# Altium footprint library SAMTEC-TFM-125-02-X-D-A.PCBLIB: 1 footprints
Each footprint in its own frame and in the unit in brackets; x right, y up, seen from the top. Pads: shape width x height; smd on the part's side, far side on the other; paste and mask are expansions set on the pad; w line width, h text height; cw(c..) or ccw(c..) is an arc to the next point about the centre after c.
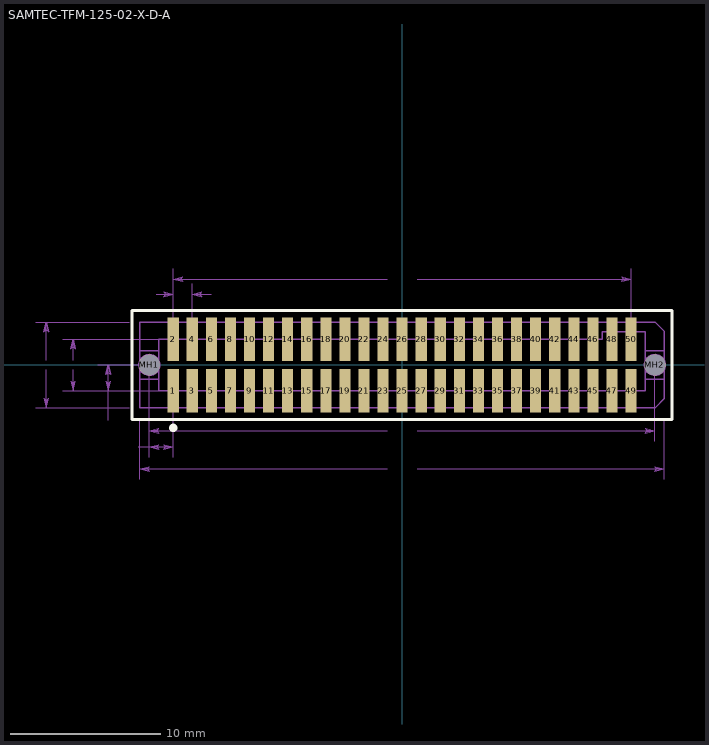
[diagram p0: the footprint, top view; thin cyan lines are the x and y axes]

## SAMTEC-TFM-125-02-X-D-A [mm]
pads (52):
  rect 0.74x2.92 smd: 1(-15.24,-1.714) 2(-15.24,1.714) 3(-13.97,-1.714) 4(-13.97,1.714) 5(-12.7,-1.714) 6(-12.7,1.714) 7(-11.43,-1.714) 8(-11.43,1.714) 9(-10.16,-1.714) 10(-10.16,1.714) 11(-8.89,-1.714) 12(-8.89,1.714) 13(-7.62,-1.714) 14(-7.62,1.714) 15(-6.35,-1.714) 16(-6.35,1.714) 17(-5.08,-1.714) 18(-5.08,1.714) 19(-3.81,-1.714) 20(-3.81,1.714) 21(-2.54,-1.714) 22(-2.54,1.714) 23(-1.27,-1.714) 24(-1.27,1.714) 25(0,-1.714) 26(0,1.714) 27(1.27,-1.714) 28(1.27,1.714) 29(2.54,-1.714) 30(2.54,1.714) 31(3.81,-1.714) 32(3.81,1.714) 33(5.08,-1.714) 34(5.08,1.714) 35(6.35,-1.714) 36(6.35,1.714) 37(7.62,-1.714) 38(7.62,1.714) 39(8.89,-1.714) 40(8.89,1.714) 41(10.16,-1.714) 42(10.16,1.714) 43(11.43,-1.714) 44(11.43,1.714) 45(12.7,-1.714) 46(12.7,1.714) 47(13.97,-1.714) 48(13.97,1.714) 49(15.24,-1.714) 50(15.24,1.714)
  round 1.4 hole 1.4: MH1(-16.828,0) MH2(16.828,0)
Top Overlay:
  circle w0.305: c-15.24,-4.191 r0.127
  lines w0.2: -17.979,-3.625 17.979,-3.625 17.979,3.625 -17.979,3.625 -17.979,-3.625
Top Paste:
  rectangle: 14.87,0.254 15.61,3.174
  rectangle: 14.87,-3.174 15.61,-0.254
  rectangle: 13.6,0.254 14.34,3.174
  rectangle: 13.6,-3.174 14.34,-0.254
  rectangle: 12.33,0.254 13.07,3.174
  rectangle: 12.33,-3.174 13.07,-0.254
  rectangle: 11.06,0.254 11.8,3.174
  rectangle: 11.06,-3.174 11.8,-0.254
  rectangle: 9.79,0.254 10.53,3.174
  rectangle: 9.79,-3.174 10.53,-0.254
  rectangle: 8.52,0.254 9.26,3.174
  rectangle: 8.52,-3.174 9.26,-0.254
  rectangle: 7.25,0.254 7.99,3.174
  rectangle: 7.25,-3.174 7.99,-0.254
  rectangle: 5.98,0.254 6.72,3.174
  rectangle: 5.98,-3.174 6.72,-0.254
  rectangle: 4.71,0.254 5.45,3.174
  rectangle: 4.71,-3.174 5.45,-0.254
  rectangle: 3.44,0.254 4.18,3.174
  rectangle: 3.44,-3.174 4.18,-0.254
  rectangle: 2.17,0.254 2.91,3.174
  rectangle: 2.17,-3.174 2.91,-0.254
  rectangle: 0.9,0.254 1.64,3.174
  rectangle: 0.9,-3.174 1.64,-0.254
  rectangle: -0.37,0.254 0.37,3.174
  rectangle: -0.37,-3.174 0.37,-0.254
  rectangle: -1.64,0.254 -0.9,3.174
  rectangle: -1.64,-3.174 -0.9,-0.254
  rectangle: -2.91,0.254 -2.17,3.174
  rectangle: -2.91,-3.174 -2.17,-0.254
  rectangle: -4.18,0.254 -3.44,3.174
  rectangle: -4.18,-3.174 -3.44,-0.254
  rectangle: -5.45,0.254 -4.71,3.174
  rectangle: -5.45,-3.174 -4.71,-0.254
  rectangle: -6.72,0.254 -5.98,3.174
  rectangle: -6.72,-3.174 -5.98,-0.254
  rectangle: -7.99,0.254 -7.25,3.174
  rectangle: -7.99,-3.174 -7.25,-0.254
  rectangle: -9.26,0.254 -8.52,3.174
  rectangle: -9.26,-3.174 -8.52,-0.254
  rectangle: -10.53,0.254 -9.79,3.174
  rectangle: -10.53,-3.174 -9.79,-0.254
  rectangle: -11.8,0.254 -11.06,3.174
  rectangle: -11.8,-3.174 -11.06,-0.254
  rectangle: -13.07,0.254 -12.33,3.174
  rectangle: -13.07,-3.174 -12.33,-0.254
  rectangle: -14.34,0.254 -13.6,3.174
  rectangle: -14.34,-3.174 -13.6,-0.254
  rectangle: -15.61,0.254 -14.87,3.174
  rectangle: -15.61,-3.174 -14.87,-0.254
Top Solder:
  circle w0: c-16.828,0 r0.751
  circle w0: c16.828,0 r0.751
  rectangle: 14.819,0.203 15.661,3.225
  rectangle: 14.819,-3.225 15.661,-0.203
  rectangle: 13.549,0.203 14.391,3.225
  rectangle: 13.549,-3.225 14.391,-0.203
  rectangle: 12.279,0.203 13.121,3.225
  rectangle: 12.279,-3.225 13.121,-0.203
  rectangle: 11.009,0.203 11.851,3.225
  rectangle: 11.009,-3.225 11.851,-0.203
  rectangle: 9.739,0.203 10.581,3.225
  rectangle: 9.739,-3.225 10.581,-0.203
  rectangle: 8.469,0.203 9.311,3.225
  rectangle: 8.469,-3.225 9.311,-0.203
  rectangle: 7.199,0.203 8.041,3.225
  rectangle: 7.199,-3.225 8.041,-0.203
  rectangle: 5.929,0.203 6.771,3.225
  rectangle: 5.929,-3.225 6.771,-0.203
  rectangle: 4.659,0.203 5.501,3.225
  rectangle: 4.659,-3.225 5.501,-0.203
  rectangle: 3.389,0.203 4.231,3.225
  rectangle: 3.389,-3.225 4.231,-0.203
  rectangle: 2.119,0.203 2.961,3.225
  rectangle: 2.119,-3.225 2.961,-0.203
  rectangle: 0.849,0.203 1.691,3.225
  rectangle: 0.849,-3.225 1.691,-0.203
  rectangle: -0.421,0.203 0.421,3.225
  rectangle: -0.421,-3.225 0.421,-0.203
  rectangle: -1.691,0.203 -0.849,3.225
  rectangle: -1.691,-3.225 -0.849,-0.203
  rectangle: -2.961,0.203 -2.119,3.225
  rectangle: -2.961,-3.225 -2.119,-0.203
  rectangle: -4.231,0.203 -3.389,3.225
  rectangle: -4.231,-3.225 -3.389,-0.203
  rectangle: -5.501,0.203 -4.659,3.225
  rectangle: -5.501,-3.225 -4.659,-0.203
  rectangle: -6.771,0.203 -5.929,3.225
  rectangle: -6.771,-3.225 -5.929,-0.203
  rectangle: -8.041,0.203 -7.199,3.225
  rectangle: -8.041,-3.225 -7.199,-0.203
  rectangle: -9.311,0.203 -8.469,3.225
  rectangle: -9.311,-3.225 -8.469,-0.203
  rectangle: -10.581,0.203 -9.739,3.225
  rectangle: -10.581,-3.225 -9.739,-0.203
  rectangle: -11.851,0.203 -11.009,3.225
  rectangle: -11.851,-3.225 -11.009,-0.203
  rectangle: -13.121,0.203 -12.279,3.225
  rectangle: -13.121,-3.225 -12.279,-0.203
  rectangle: -14.391,0.203 -13.549,3.225
  rectangle: -14.391,-3.225 -13.549,-0.203
  rectangle: -15.661,0.203 -14.819,3.225
  rectangle: -15.661,-3.225 -14.819,-0.203
Bottom Solder:
  circle w0: c-16.828,0 r0.751
  circle w0: c16.828,0 r0.751
Mechanical 16:
  drawing of 311 lines, arcs and shapes, not listed
Mechanical 30:
  circle w0.1: c16.828,0 r0.699
  circle w0.1: c-16.828,0 r0.699
Mechanical 40:
  drawing of 176 lines, arcs and shapes, not listed
  text "30.480" at -0.8,5.588 h0.39
  text "33.655" at -0.8,-4.508 h0.39
  text "34.925" at -0.8,-7.048 h0.39
  text "1.270" at -17.869,4.572 h0.39
  text "1.587" at -19.075,-5.588 h0.39
  text "1.714" at -20.218,-4.128 h0.39
  text "5.715" at -24.346,-0.127 h0.39
  text "3.429" at -22.568,-0.127 h0.39